# Altium footprint library Display.PcbLib: 42 footprints (part 2 of 3)
Each footprint in its own frame and in the unit in brackets; x right, y up, seen from the top. Pads: shape width x height; smd on the part's side, far side on the other; paste and mask are expansions set on the pad; w line width, h text height; cw(c..) or ccw(c..) is an arc to the next point about the centre after c.
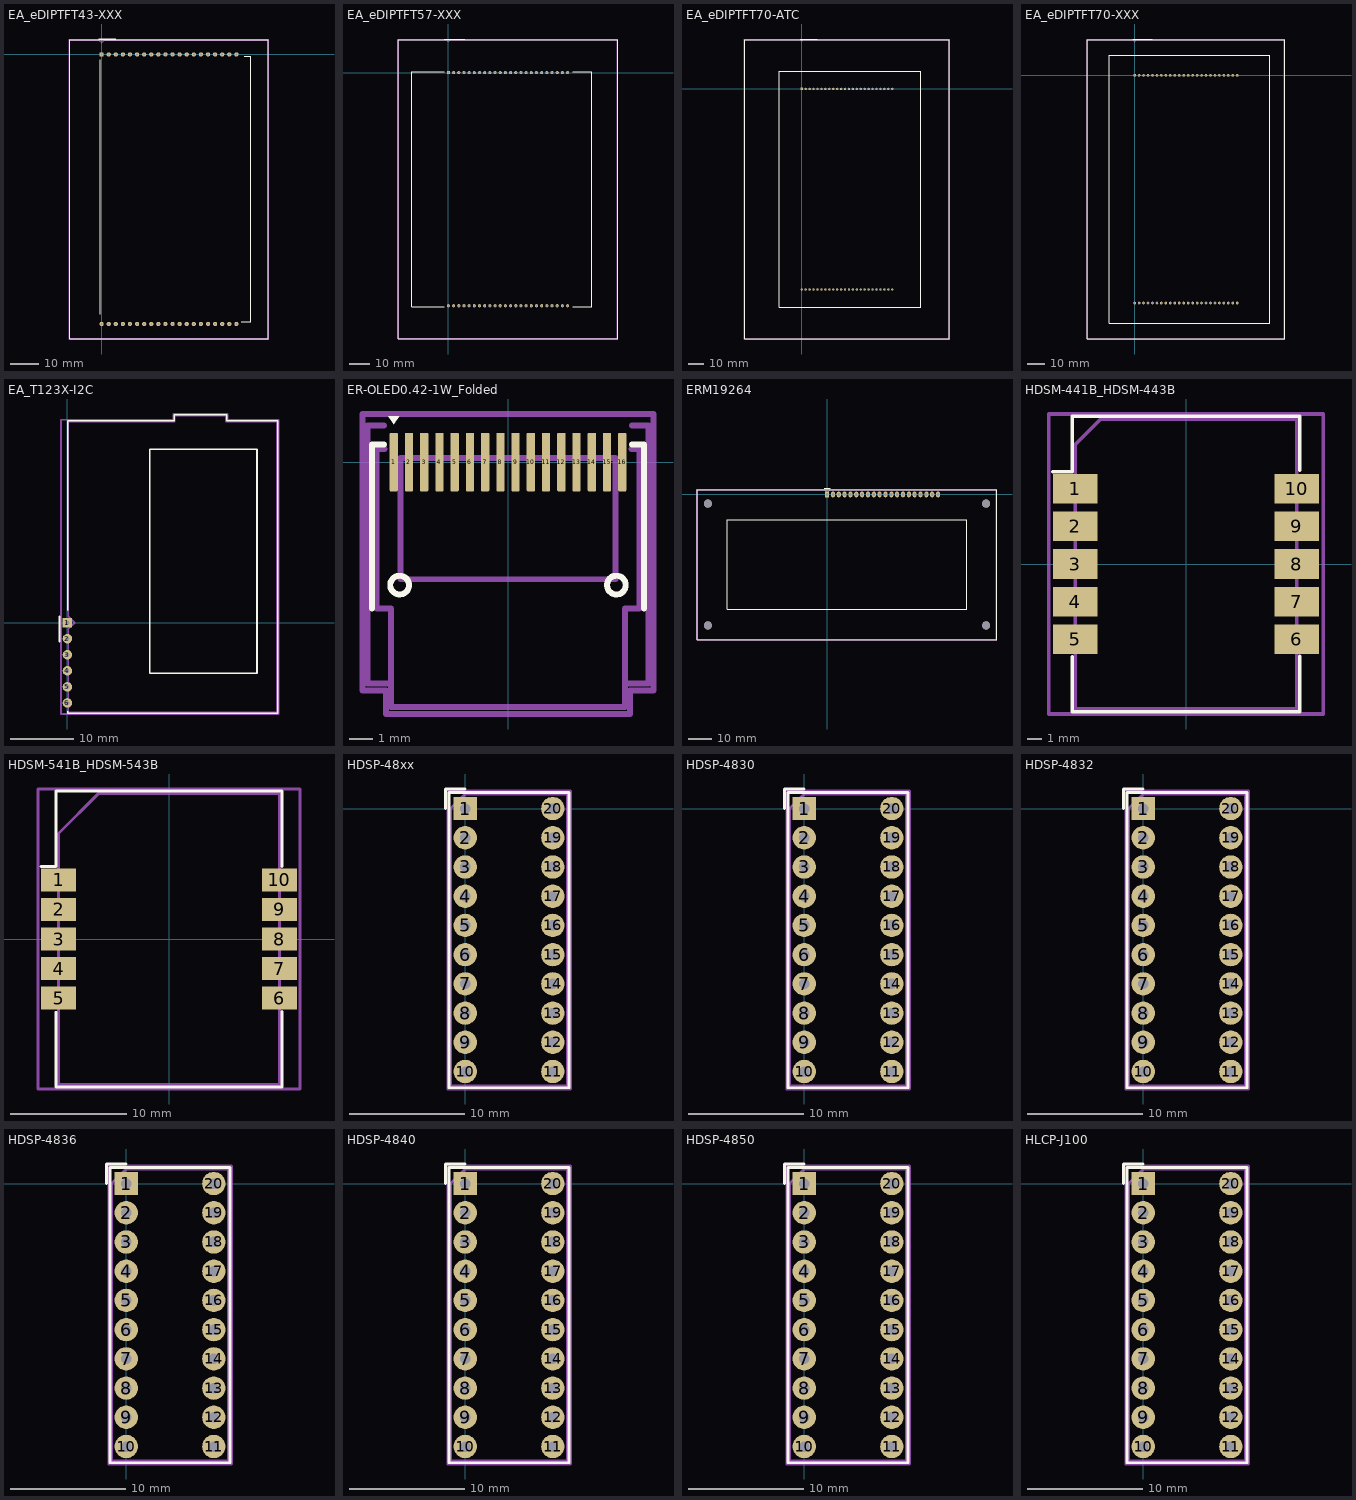
[diagram p1: the footprints below, top view; thin cyan lines are the x and y axes]

## EA_eDIPTFT43-XXX [mil]
pads (40):
  rect 60x60 hole 27.56: 1(0,0)
  round 60 hole 27.56: 2(100,0) 3(200,0) 4(300,0) 5(400,0) 6(500,0) 7(600,0) 8(700,0) 9(800,0) 10(900,0) 11(1000,0) 12(1100,0) 13(1200,0) 14(1300,0) 15(1400,0) 16(1500,0) 17(1600,0) 18(1700,0) 19(1800,0) 20(1900,0) 21(1900,-3800) 22(1800,-3800) 23(1700,-3800) 24(1600,-3800) 25(1500,-3800) 26(1400,-3800) 27(1300,-3800) 28(1200,-3800) 29(1100,-3800) 30(1000,-3800) 31(900,-3800) 32(800,-3800) 33(700,-3800) 34(600,-3800) 35(500,-3800) 36(400,-3800) 37(300,-3800) 38(200,-3800) 39(100,-3800) 40(0,-3800)
F.SilkS:
  lines w10: -39.37,216.93 196.85,216.93 ; -19.68,-3661.42 -19.68,-78.74 ; 1968.5,-3770.87 2100.79,-3770.87 2100.79,-29.13 2007.87,-29.13 ; -452.36,-4007.09 2352.36,-4007.09 2352.36,207.09 -452.36,207.09 -452.36,-4007.09
Top Assembly:
  lines w10: -447.64,-4002.36 2347.64,-4002.36 2347.64,202.36 39.37,202.36 0,162.99 -39.37,202.36 -447.64,202.36 -447.64,-4002.36
  text "'.Designator'" at 840.68,-1833.08 h39.37
Top Courtyard:
  lines w10: -457.48,-4012.2 2357.48,-4012.2 2357.48,212.2 -457.48,212.2 -457.48,-4012.2
Top Designator:
  text ".Designator" at 650.1,-1917.63 h60

## EA_eDIPTFT57-XXX [mil]
pads (48):
  rect 60x60 hole 39.37: 1(0,0)
  round 60 hole 39.37: 2(100,0) 3(200,0) 4(300,0) 5(400,0) 6(500,0) 7(600,0) 8(700,0) 9(800,0) 10(900,0) 11(1000,0) 12(1100,0) 13(1200,0) 14(1300,0) 15(1400,0) 16(1500,0) 17(1600,0) 18(1700,0) 19(1800,0) 20(1900,0) 21(2000,0) 22(2100,0) 23(2200,0) 24(2300,0) 25(2300,-4500) 26(2200,-4500) 27(2100,-4500) 28(2000,-4500) 29(1900,-4500) 30(1800,-4500) 31(1700,-4500) 32(1600,-4500) 33(1500,-4500) 34(1400,-4500) 35(1300,-4500) 36(1200,-4500) 37(1100,-4500) 38(1000,-4500) 39(900,-4500) 40(800,-4500) 41(700,-4500) 42(600,-4500) 43(500,-4500) 44(400,-4500) 45(300,-4500) 46(200,-4500) 47(100,-4500) 48(0,-4500)
F.SilkS:
  lines w10: -78.74,-4517.72 -704.33,-4517.72 -704.33,17.72 -78.74,17.72 ; -78.74,649.61 314.96,649.61 ; 2401.57,-4517.72 2768.11,-4517.72 2768.11,17.72 2401.57,17.72 ; -964.96,-5136.61 3264.96,-5136.61 3264.96,636.61 -964.96,636.61 -964.96,-5136.61
Top Assembly:
  lines w10: -960.24,-5131.89 3260.24,-5131.89 3260.24,631.89 39.37,631.89 0,592.52 -39.37,631.89 -960.24,631.89 -960.24,-5131.89
  text "'.Designator'" at 1040.68,-2233.08 h39.37
Top Courtyard:
  lines w10: -970.08,-5141.73 3270.08,-5141.73 3270.08,641.73 -970.08,641.73 -970.08,-5141.73
Top Designator:
  text ".Designator" at 850.1,-2266.06 h60

## EA_eDIPTFT70-ATC [mm]
pads (48):
  rect 1.5x1.5 hole 1: 1(0,0)
  round 1.5 hole 1: 2(2.54,0) 3(5.08,0) 4(7.62,0) 5(10.16,0) 6(12.7,0) 7(15.24,0) 8(17.78,0) 9(20.32,0) 10(22.86,0) 11(25.4,0) 12(27.94,0) 13(30.48,0) 14(33.02,0) 15(35.56,0) 16(38.1,0) 17(40.64,0) 18(43.18,0) 19(45.72,0) 20(48.26,0) 21(50.8,0) 22(53.34,0) 23(55.88,0) 24(58.42,0) 25(58.42,-129.54) 26(55.88,-129.54) 27(53.34,-129.54) 28(50.8,-129.54) 29(48.26,-129.54) 30(45.72,-129.54) 31(43.18,-129.54) 32(40.64,-129.54) 33(38.1,-129.54) 34(35.56,-129.54) 35(33.02,-129.54) 36(30.48,-129.54) 37(27.94,-129.54) 38(25.4,-129.54) 39(22.86,-129.54) 40(20.32,-129.54) 41(17.78,-129.54) 42(15.24,-129.54) 43(12.7,-129.54) 44(10.16,-129.54) 45(7.62,-129.54) 46(5.08,-129.54) 47(2.54,-129.54) 48(0,-129.54)
F.SilkS:
  lines w0.254: -1,32.23 10,32.23 ; -36.91,-161.39 95.33,-161.39 95.33,31.85 -36.91,31.85 -36.91,-161.39 ; -14.51,-140.97 76.93,-140.97 76.93,11.43 -14.51,11.43 -14.51,-140.97
Top Assembly:
  lines w0.254: -36.79,-161.27 95.21,-161.27 95.21,31.73 1,31.73 0,30.73 -1,31.73 -36.79,31.73 -36.79,-161.27
  text "'.Designator'" at 26.433,-66.88 h1
Top Courtyard:
  lines w0.254: -37.04,-161.52 95.46,-161.52 95.46,31.98 -37.04,31.98 -37.04,-161.52
Top Designator:
  text ".Designator" at 21.592,-65.153 h1.52

## EA_eDIPTFT70-XXX [mm]
pads (48):
  rect 1.5x1.5 hole 1: 1(0,0)
  round 1.5 hole 1: 2(2.54,0) 3(5.08,0) 4(7.62,0) 5(10.16,0) 6(12.7,0) 7(15.24,0) 8(17.78,0) 9(20.32,0) 10(22.86,0) 11(25.4,0) 12(27.94,0) 13(30.48,0) 14(33.02,0) 15(35.56,0) 16(38.1,0) 17(40.64,0) 18(43.18,0) 19(45.72,0) 20(48.26,0) 21(50.8,0) 22(53.34,0) 23(55.88,0) 24(58.42,0) 25(58.42,-129.54) 26(55.88,-129.54) 27(53.34,-129.54) 28(50.8,-129.54) 29(48.26,-129.54) 30(45.72,-129.54) 31(43.18,-129.54) 32(40.64,-129.54) 33(38.1,-129.54) 34(35.56,-129.54) 35(33.02,-129.54) 36(30.48,-129.54) 37(27.94,-129.54) 38(25.4,-129.54) 39(22.86,-129.54) 40(20.32,-129.54) 41(17.78,-129.54) 42(15.24,-129.54) 43(12.7,-129.54) 44(10.16,-129.54) 45(7.62,-129.54) 46(5.08,-129.54) 47(2.54,-129.54) 48(0,-129.54)
F.SilkS:
  lines w0.254: -1,20.73 10,20.73 ; -26.88,-149.89 85.36,-149.89 85.36,20.35 -26.88,20.35 -26.88,-149.89 ; -14.51,-140.97 76.93,-140.97 76.93,11.43 -14.51,11.43 -14.51,-140.97
Top Assembly:
  lines w0.254: -26.76,-149.77 85.24,-149.77 85.24,20.23 1,20.23 0,19.23 -1,20.23 -26.76,20.23 -26.76,-149.77
  text "'.Designator'" at 26.433,-66.88 h1
Top Courtyard:
  lines w0.254: -27.01,-150.02 85.49,-150.02 85.49,20.48 -27.01,20.48 -27.01,-150.02
Top Designator:
  text ".Designator" at 21.622,-65.153 h1.52

## EA_T123X-I2C [mm]
pads (6):
  rect 1.5x1.5 hole 0.75: 1(0,0)
  round 1.5 hole 0.75: 2(0,-2.54) 3(0,-5.08) 4(0,-7.62) 5(0,-10.16) 6(0,-12.7)
F.SilkS:
  lines w0.254: -1.25,-3 -1.25,1 ; 0.03,-14 0.03,-14.32 33.27,-14.32 33.27,31.92 25.19,31.92 ; 0.03,2 0.03,31.92 16.89,31.92 ; 16.89,31.94 16.89,32.87 25.19,32.87 25.19,31.93 ; 13,-8 30,-8 30,27.4 13,27.4 13,-8
Top Assembly:
  lines w0.254: 0.15,-14.2 33.15,-14.2 33.15,31.8 25.07,31.8 25.07,32.75 17.01,32.75 17.01,31.8 0.15,31.8 0.15,1 1.15,0 0.15,-1 0.15,-14.2
  text "'.Designator'" at 9.423,9.66 h1
Top Courtyard:
  lines w0.254: -1,32.05 -1,-14.45 33.4,-14.45 33.4,32.05 25.32,32.05 ; -1,32.09 16.76,32.08 16.76,33 25.31,33 ; 25.32,32.06 25.32,33
Top Designator:
  text ".Designator" at 8.457,8.767 h1.52

## ER-OLED0.42-1W_Folded [mm]
pads (16):
  rrect25% 0.35x2.5 smd: 1(-4.875,0) 2(-4.225,0) 3(-3.575,0) 4(-2.925,0) 5(-2.275,0) 6(-1.625,0) 7(-0.975,0) 8(-0.325,0) 9(0.325,0) 10(0.975,0) 11(1.625,0) 12(2.275,0) 13(2.925,0) 14(3.575,0) 15(4.225,0) 16(4.875,0)
F.SilkS:
  circle w0.254: c4.625,-5.25 r0.4
  circle w0.254: c-4.625,-5.25 r0.4
  region: -4.876,1.62 -5.116,1.95 -4.636,1.95
  lines w0.254: -5.8,-6.25 -5.8,0.75 -5.3,0.75 ; 5.3,0.75 5.8,0.75 5.8,-6.25
Top Assembly:
  lines w0.254: -5.3,1.55 -6,1.55 -6,-9.45 -5,-9.45 ; -5.27,0.55 -5.6,0.55 -5.6,-6.25 -5,-6.25 -5,-10.45 5,-10.45 5,-6.25 5.6,-6.25 5.6,0.55 5.27,0.55 ; 5,-9.45 6,-9.45 6,1.55 5.3,1.55
  text "'.Designator'" at -4.047,-10.29 h1
Top Courtyard:
  lines w0.254: -6.2,-9.75 -5.2,-9.75 -5.2,-10.75 5.2,-10.75 5.2,-9.75 6.2,-9.75 6.2,2.05 -6.2,2.05 -6.2,-9.75
Top Designator:
  text ".Designator" at -7.618,-4.858 h1.52
Dwgs.User:
  lines w0.254: -4.595,-5 4.595,-5 4.595,0.175 0,0.175 -4.595,0.175 -4.595,-5

## ERM19264 [mm]
pads (24):
  rect 1.8x2.5 hole 1.2: 1(0,0)
  rrect100% 1.8x2.5 hole 1.2: 2(2.54,0) 3(5.08,0) 4(7.62,0) 5(10.16,0) 6(12.7,0) 7(15.24,0) 8(17.78,0) 9(20.32,0) 10(22.86,0) 11(25.4,0) 12(27.94,0) 13(30.48,0) 14(33.02,0) 15(35.56,0) 16(38.1,0) 17(40.64,0) 18(43.18,0) 19(45.72,0) 20(48.26,0)
  round 3.5 hole 3.5: Un1(-51.84,-4) Un2(-51.84,-57) Un3(69.16,-4) Un4(69.16,-57)
F.SilkS:
  lines w0.254: -1.27,2.74 1.27,2.74 ; -56.46,-63.12 73.78,-63.12 73.78,2.12 -56.46,2.12 -56.46,-63.12 ; -43.34,-50 60.66,-50 60.66,-11 -43.34,-11 -43.34,-50
Top Assembly:
  lines w0.254: -56.34,-63 73.66,-63 73.66,2 1.27,2 0,0.635 -1.27,2 -56.34,2 -56.34,-63
  text "'.Designator'" at 5.266,-31.581 h2
Top Courtyard:
  lines w0.254: -56.59,-63.25 73.91,-63.25 73.91,2.25 -56.59,2.25 -56.59,-63.25
Top Designator:
  text ".Designator" at 1.042,-30.763 h1.52

## HDSM-441B_HDSM-443B [mm]
pads (10):
  rect 3x2 smd: 1(-7.5,5.08) 2(-7.5,2.54) 3(-7.5,0) 4(-7.5,-2.54) 5(-7.5,-5.08) 6(7.5,-5.08) 7(7.5,-2.54) 8(7.5,0) 9(7.5,2.54) 10(7.5,5.08)
F.SilkS:
  lines w0.254: -9,6.25 -7.7,6.25 -7.7,10 ; -7.7,-6.3 -7.7,-9.99 7.7,-9.99 7.7,-6.25 ; -7.7,9.99 7.7,9.99 7.7,6.35
Top Assembly:
  lines w0.254: -7.5,-9.8 7.5,-9.8 7.5,9.8 -5.78,9.8 -7.5,8.08 -7.5,-9.8
  text "'.Designator'" at -3.437,-0.81 h1
Top Courtyard:
  lines w0.254: -9.28,-10.15 9.28,-10.15 9.28,10.15 -9.28,10.15 -9.28,-10.15
Top Designator:
  text ".Designator" at -7.618,-0.508 h1.52

## HDSM-541B_HDSM-543B [mm]
pads (10):
  rect 3x2 smd: 1(-9.5,5.08) 2(-9.5,2.54) 3(-9.5,0) 4(-9.5,-2.54) 5(-9.5,-5.08) 6(9.5,-5.08) 7(9.5,-2.54) 8(9.5,0) 9(9.5,2.54) 10(9.5,5.08)
F.SilkS:
  lines w0.254: -11,6.23 -9.7,6.23 -9.7,12.71 9.7,12.71 9.7,6.25 ; -9.7,-6.3 -9.7,-12.71 9.7,-12.71 9.7,-6.25
Top Assembly:
  lines w0.254: -9.5,-12.5 9.5,-12.5 9.5,12.5 -6.08,12.5 -9.5,9.08 -9.5,-12.5
  text "'.Designator'" at -3.547,-0.94 h1
Top Courtyard:
  lines w0.254: -11.28,-12.9 11.28,-12.9 11.28,12.9 -11.28,12.9 -11.28,-12.9
Top Designator:
  text ".Designator" at -7.618,-0.508 h1.52

## HDSP-48xx [mil]
pads (20):
  rect 80x80 hole 36: 1(0,0)
  round 80 hole 36: 2(0,-100) 3(0,-200) 4(0,-300) 5(0,-400) 6(0,-500) 7(0,-600) 8(0,-700) 9(0,-800) 10(0,-900) 11(300,-900) 12(300,-800) 13(300,-700) 14(300,-600) 15(300,-500) 16(300,-400) 17(300,-300) 18(300,-200) 19(300,-100) 20(300,0)
F.SilkS:
  lines w10: -66.93,0 -66.93,66.93 0,66.93 ; -55.51,-955.51 355.51,-955.51 355.51,55.51 -55.51,55.51 -55.51,-955.51
Top Assembly:
  lines w10: -50,-950 350,-950 350,50 0,50 -50,0 -50,-950
  text "'.Designator'" at 0.13,-503.56 h39.37
Top Courtyard:
  lines w10: -59.84,-959.84 359.84,-959.84 359.84,59.84 -59.84,59.84 -59.84,-959.84
Top Designator:
  text ".Designator" at -153.45,-466.45 h60

## HDSP-4830 [mil]
pads (20):
  rect 80x80 hole 36: 1(0,0)
  round 80 hole 36: 2(0,-100) 3(0,-200) 4(0,-300) 5(0,-400) 6(0,-500) 7(0,-600) 8(0,-700) 9(0,-800) 10(0,-900) 11(300,-900) 12(300,-800) 13(300,-700) 14(300,-600) 15(300,-500) 16(300,-400) 17(300,-300) 18(300,-200) 19(300,-100) 20(300,0)
F.SilkS:
  lines w10: -66.93,0 -66.93,66.93 0,66.93 ; -55.51,-955.51 355.51,-955.51 355.51,55.51 -55.51,55.51 -55.51,-955.51
Top Assembly:
  lines w10: -50,-950 350,-950 350,50 0,50 -50,0 -50,-950
  text "'.Designator'" at 0.13,-503.56 h39.37
Top Courtyard:
  lines w10: -59.84,-959.84 359.84,-959.84 359.84,59.84 -59.84,59.84 -59.84,-959.84
Top Designator:
  text ".Designator" at -153.45,-466.45 h60

## HDSP-4832 [mil]
pads (20):
  rect 80x80 hole 36: 1(0,0)
  round 80 hole 36: 2(0,-100) 3(0,-200) 4(0,-300) 5(0,-400) 6(0,-500) 7(0,-600) 8(0,-700) 9(0,-800) 10(0,-900) 11(300,-900) 12(300,-800) 13(300,-700) 14(300,-600) 15(300,-500) 16(300,-400) 17(300,-300) 18(300,-200) 19(300,-100) 20(300,0)
F.SilkS:
  lines w10: -66.93,0 -66.93,66.93 0,66.93 ; -55.51,-955.51 355.51,-955.51 355.51,55.51 -55.51,55.51 -55.51,-955.51
Top Assembly:
  lines w10: -50,-950 350,-950 350,50 0,50 -50,0 -50,-950
  text "'.Designator'" at 0.13,-503.56 h39.37
Top Courtyard:
  lines w10: -59.84,-959.84 359.84,-959.84 359.84,59.84 -59.84,59.84 -59.84,-959.84
Top Designator:
  text ".Designator" at -153.45,-466.45 h60

## HDSP-4836 [mil]
pads (20):
  rect 80x80 hole 36: 1(0,0)
  round 80 hole 36: 2(0,-100) 3(0,-200) 4(0,-300) 5(0,-400) 6(0,-500) 7(0,-600) 8(0,-700) 9(0,-800) 10(0,-900) 11(300,-900) 12(300,-800) 13(300,-700) 14(300,-600) 15(300,-500) 16(300,-400) 17(300,-300) 18(300,-200) 19(300,-100) 20(300,0)
F.SilkS:
  lines w10: -66.93,0 -66.93,66.93 0,66.93 ; -55.51,-955.51 355.51,-955.51 355.51,55.51 -55.51,55.51 -55.51,-955.51
Top Assembly:
  lines w10: -50,-950 350,-950 350,50 0,50 -50,0 -50,-950
  text "'.Designator'" at 0.13,-503.56 h39.37
Top Courtyard:
  lines w10: -59.84,-959.84 359.84,-959.84 359.84,59.84 -59.84,59.84 -59.84,-959.84
Top Designator:
  text ".Designator" at -153.45,-466.45 h60

## HDSP-4840 [mil]
pads (20):
  rect 80x80 hole 36: 1(0,0)
  round 80 hole 36: 2(0,-100) 3(0,-200) 4(0,-300) 5(0,-400) 6(0,-500) 7(0,-600) 8(0,-700) 9(0,-800) 10(0,-900) 11(300,-900) 12(300,-800) 13(300,-700) 14(300,-600) 15(300,-500) 16(300,-400) 17(300,-300) 18(300,-200) 19(300,-100) 20(300,0)
F.SilkS:
  lines w10: -66.93,0 -66.93,66.93 0,66.93 ; -55.51,-955.51 355.51,-955.51 355.51,55.51 -55.51,55.51 -55.51,-955.51
Top Assembly:
  lines w10: -50,-950 350,-950 350,50 0,50 -50,0 -50,-950
  text "'.Designator'" at 0.13,-503.56 h39.37
Top Courtyard:
  lines w10: -59.84,-959.84 359.84,-959.84 359.84,59.84 -59.84,59.84 -59.84,-959.84
Top Designator:
  text ".Designator" at -153.45,-466.45 h60

## HDSP-4850 [mil]
pads (20):
  rect 80x80 hole 36: 1(0,0)
  round 80 hole 36: 2(0,-100) 3(0,-200) 4(0,-300) 5(0,-400) 6(0,-500) 7(0,-600) 8(0,-700) 9(0,-800) 10(0,-900) 11(300,-900) 12(300,-800) 13(300,-700) 14(300,-600) 15(300,-500) 16(300,-400) 17(300,-300) 18(300,-200) 19(300,-100) 20(300,0)
F.SilkS:
  lines w10: -66.93,0 -66.93,66.93 0,66.93 ; -55.51,-955.51 355.51,-955.51 355.51,55.51 -55.51,55.51 -55.51,-955.51
Top Assembly:
  lines w10: -50,-950 350,-950 350,50 0,50 -50,0 -50,-950
  text "'.Designator'" at 0.13,-503.56 h39.37
Top Courtyard:
  lines w10: -59.84,-959.84 359.84,-959.84 359.84,59.84 -59.84,59.84 -59.84,-959.84
Top Designator:
  text ".Designator" at -153.45,-466.45 h60

## HLCP-J100 [mil]
pads (20):
  rect 80x80 hole 36: 1(0,0)
  round 80 hole 36: 2(0,-100) 3(0,-200) 4(0,-300) 5(0,-400) 6(0,-500) 7(0,-600) 8(0,-700) 9(0,-800) 10(0,-900) 11(300,-900) 12(300,-800) 13(300,-700) 14(300,-600) 15(300,-500) 16(300,-400) 17(300,-300) 18(300,-200) 19(300,-100) 20(300,0)
F.SilkS:
  lines w10: -66.93,0 -66.93,66.93 0,66.93 ; -55.51,-955.51 355.51,-955.51 355.51,55.51 -55.51,55.51 -55.51,-955.51
Top Assembly:
  lines w10: -50,-950 350,-950 350,50 0,50 -50,0 -50,-950
  text "'.Designator'" at 0.13,-503.56 h39.37
Top Courtyard:
  lines w10: -59.84,-959.84 359.84,-959.84 359.84,59.84 -59.84,59.84 -59.84,-959.84
Top Designator:
  text ".Designator" at -153.45,-466.45 h60